# Altium footprint library SparkFun-IC-Memory.PCBLIB: 4 footprints
Each footprint in its own frame and in the unit in brackets; x right, y up, seen from the top. Pads: shape width x height; smd on the part's side, far side on the other; paste and mask are expansions set on the pad; w line width, h text height; cw(c..) or ccw(c..) is an arc to the next point about the centre after c.
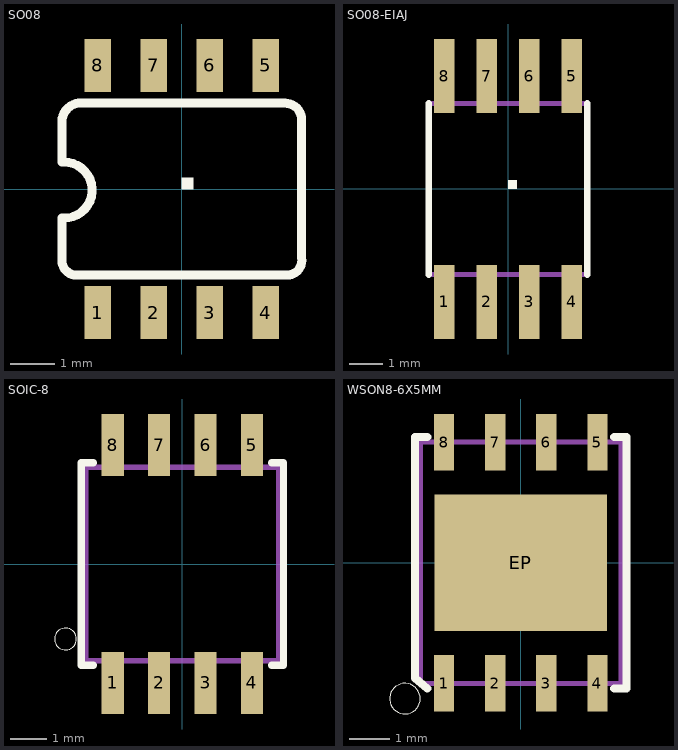
[diagram p0: the footprints below, top view; thin cyan lines are the x and y axes]

## SO08 [mil]
pads (8):
  rect 23.62x47.24 smd: 1(-75,-110.24) 2(-25,-110.24) 3(25,-110.24) 4(75,-110.24) 5(75,110.24) 6(25,110.24) 7(-25,110.24) 8(-75,110.24)
Top Overlay:
  region: 0,0 10,0 10,10 0,10
  lines w8: -107,-26 -107,-65.56 ccw(c-93.97,-63.6) -92,-76.63 95.94,-76.63 ccw(c93.97,-63.6) 107,-61.63 107,61.63 ccw(c92,61.63) 92,76.63 -92,76.63 ccw(c-90.03,59.66) -107,57.69 ; -107,24 -107,57.19 ; -105,-26 ccw(c-105,-1) -105,24
Mechanical 16:
  rectangle: -85,-130 -65,-89.5
  rectangle: -35,-130 -15,-89.5
  rectangle: 15,-130 35,-89.5
  rectangle: 65,-130 85,-89.5
  rectangle: -35,90 -15,130
  rectangle: 15,90 35,130
  rectangle: 65,90 85,130
  rectangle: -85,90 -65,130

## SO08-EIAJ [mil]
pads (8):
  rect 24x87 smd: 1(-75,-133) 2(-25,-133) 3(25,-133) 4(75,-133) 5(75,132) 6(25,132) 7(-25,132) 8(-75,132)
Top Overlay:
  region: 0,0 10,0 10,10 0,10
  lines w8: -92.99,-100.98 -92.99,99.98 ; 92.99,-100.98 92.99,99.98
Mechanical 16:
  rectangle: -82,-143 -68,-103
  rectangle: -32,-143 -18,-103
  rectangle: 18,-143 32,-103
  rectangle: 68,-143 82,-103
  rectangle: -82,102 -68,142
  rectangle: -32,102 -18,142
  rectangle: 18,102 32,142
  rectangle: 68,102 82,142
  lines w6: -92.99,-100.98 92.99,-100.98 ; -92.99,99.98 92.99,99.98

## SOIC-8 [mil]
pads (8):
  rect 24x67 smd: 1(-75,-128) 2(-25,-128) 3(25,-128) 4(75,-128) 5(75,128) 6(25,128) 7(-25,128) 8(-75,128)
Top Overlay:
  circle w0: c-125.75,-80.75 r11.81
  lines w8: -96.06,-108.94 -108.94,-108.94 -108.94,108.94 -96.06,108.94 ; 96.06,-108.94 108.94,-108.94 108.94,108.94 96.06,108.94
Mechanical 16:
  rectangle: -82,-155.51 -68,-103.94
  rectangle: -32,-155.51 -18,-103.94
  rectangle: 18,-155.51 32,-103.94
  rectangle: 68,-155.51 82,-103.94
  region: 82,155.51 68,155.51 68,103.94 82,103.94
  region: 32,155.51 18,155.51 18,103.94 32,103.94
  region: -18,155.51 -32,155.51 -32,103.94 -18,103.94
  region: -68,155.51 -82,155.51 -82,103.94 -68,103.94
  lines w6: -103.94,-103.94 103.94,-103.94 103.94,103.94 -103.94,103.94 -103.94,-103.94

## WSON8-6X5MM [mm]
pads (9):
  rect 0.5x1.4 smd: 1(-1.905,-3) 2(-0.635,-3) 3(0.635,-3) 4(1.905,-3) 5(1.905,3) 6(0.635,3) 7(-0.635,3) 8(-1.905,3)
  rect 4.3x3.4 smd: EP(0,0)
Top Overlay:
  circle w0: c-2.881,-3.381 r0.381
  lines w0.203: -2.326,-3.127 -2.627,-2.873 -2.627,3.127 -2.326,3.127 ; 2.326,-3.127 2.627,-3.127 2.627,3.127 2.326,3.127
Mechanical 16:
  region: 0,0 0.254,0 0.254,0.254 0,0.254
  region: 0,0 0.254,0 0.254,0.254 0,0.254
  region: 0,0 0.254,0 0.254,0.254 0,0.254
  region: 0,0 0.254,0 0.254,0.254 0,0.254
  region: 0,0 0.254,0 0.254,0.254 0,0.254
  region: 0,0 0.254,0 0.254,0.254 0,0.254
  region: 0,0 0.254,0 0.254,0.254 0,0.254
  region: 0,0 0.254,0 0.254,0.254 0,0.254
  region: 0,0 0.254,0 0.254,0.254 0,0.254
  lines w0.127: -2.5,-3 -2.5,3 2.5,3 2.5,-3 -2.5,-3